# EAGLE library part CY7C68013-56 (library kamiki)
EZ-USB FX2 USB Microcontroller High-speed USB Peripheral Controller
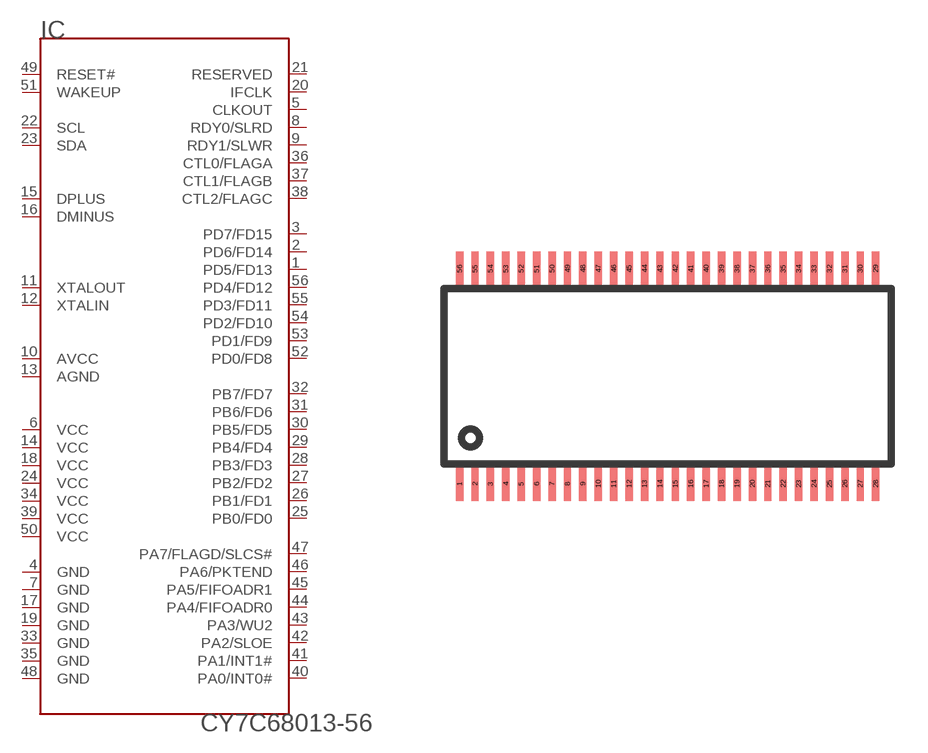
[diagram p14: symbol with the pads of SSOP56DL; footprint SSOP56DL]

Designator prefix IC

## CY7C68013-56  [SSOP56DL]
1  PD5/FD13
2  PD6/FD14
3  PD7/FD15
4  GND  pwr
5  CLKOUT
6  VCC  pwr
7  GND  pwr
8  RDY0/SLRD
9  RDY1/SLWR
10  AVCC  pwr
11  XTALOUT  pas
12  XTALIN  pas
13  AGND  pwr
14  VCC  pwr
15  DPLUS
16  DMINUS
17  GND  pwr
18  VCC  pwr
19  GND  pwr
20  IFCLK
21  RESERVED
22  SCL
23  SDA
24  VCC  pwr
25  PB0/FD0
26  PB1/FD1
27  PB2/FD2
28  PB3/FD3
29  PB4/FD4
30  PB5/FD5
31  PB6/FD6
32  PB7/FD7
33  GND  pwr
34  VCC  pwr
35  GND  pwr
36  CTL0/FLAGA
37  CTL1/FLAGB
38  CTL2/FLAGC
39  VCC  pwr
40  PA0/INT0#
41  PA1/INT1#
42  PA2/SLOE
43  PA3/WU2
44  PA4/FIFOADR0
45  PA5/FIFOADR1
46  PA6/PKTEND
47  PA7/FLAGD/SLCS#
48  GND  pwr
49  RESET#
50  VCC  pwr
51  WAKEUP
52  PD0/FD8
53  PD1/FD9
54  PD2/FD10
55  PD3/FD11
56  PD4/FD12

## Footprint SSOP56DL (pad centres in mm)
Small Shrink Outline Package O56, 0.635mm pitch.
smd 0.305 x 1.397: 1 -8.572,-4.432; 2 -7.938,-4.432; 3 -7.303,-4.432; 4 -6.668,-4.432; 5 -6.032,-4.432; 6 -5.397,-4.432; 7 -4.763,-4.432; 8 -4.128,-4.432; 9 -3.493,-4.432; 10 -2.857,-4.432; 11 -2.223,-4.432; 12 -1.587,-4.432; 13 -0.953,-4.432; 14 -0.318,-4.432; 15 0.318,-4.432; 16 0.953,-4.432; 17 1.587,-4.432; 18 2.223,-4.432; 19 2.857,-4.432; 20 3.493,-4.432; 21 4.128,-4.432; 22 4.763,-4.432; 23 5.397,-4.432; 24 6.032,-4.432; 25 6.668,-4.432; 26 7.303,-4.432; 27 7.938,-4.432; 28 8.572,-4.432; 29 8.572,4.432; 30 7.938,4.432; 31 7.303,4.432; 32 6.668,4.432; 33 6.032,4.432; 34 5.397,4.432; 35 4.763,4.432; 36 4.128,4.432; 37 3.493,4.432; 38 2.857,4.432; 39 2.223,4.432; 40 1.587,4.432; 41 0.953,4.432; 42 0.318,4.432; 43 -0.318,4.432; 44 -0.953,4.432; 45 -1.587,4.432; 46 -2.223,4.432; 47 -2.857,4.432; 48 -3.493,4.432; 49 -4.128,4.432; 50 -4.763,4.432; 51 -5.397,4.432; 52 -6.032,4.432; 53 -6.668,4.432; 54 -7.303,4.432; 55 -7.938,4.432; 56 -8.572,4.432